# Altium footprint library 3Delight.PcbLib: 111 footprints (part 1 of 7)
Each footprint in its own frame and in the unit in brackets; x right, y up, seen from the top. Pads: shape width x height; smd on the part's side, far side on the other; paste and mask are expansions set on the pad; w line width, h text height; cw(c..) or ccw(c..) is an arc to the next point about the centre after c.
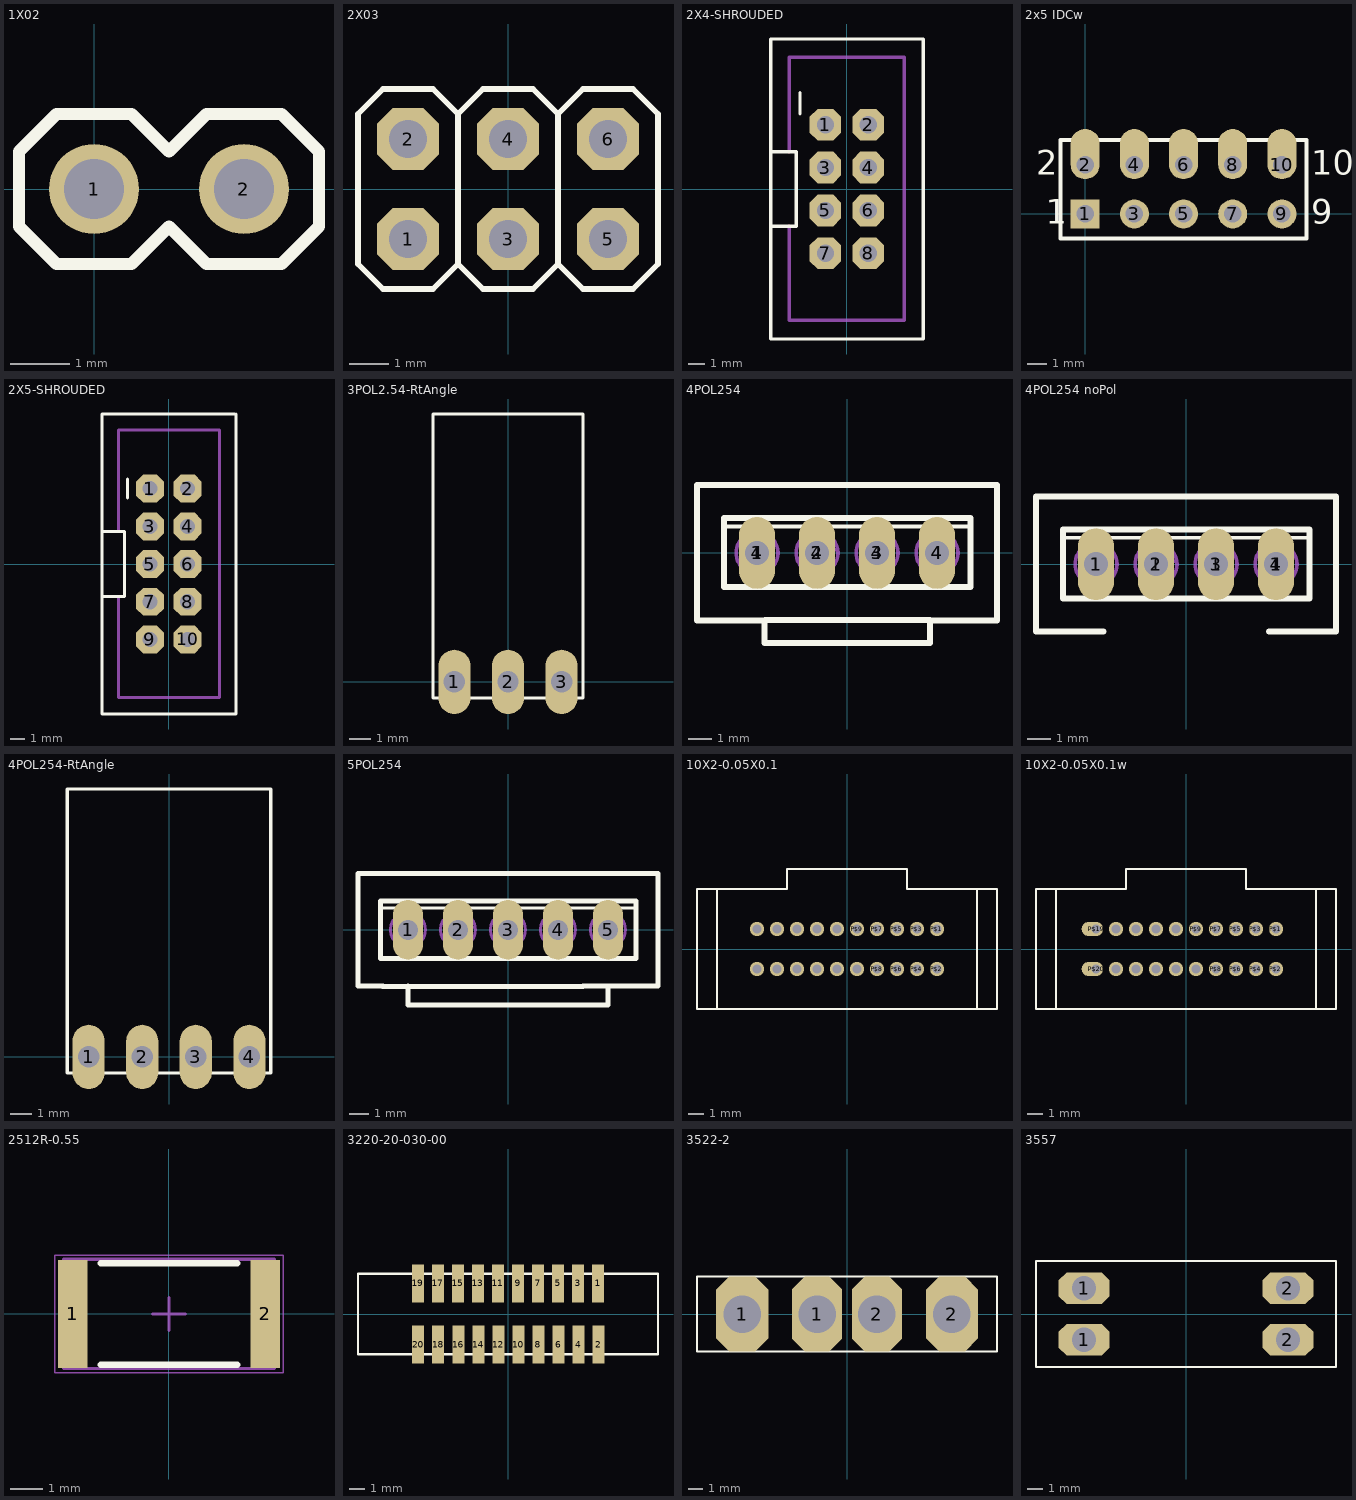
[diagram p0: the footprints below, top view; thin cyan lines are the x and y axes]

## 1X02 [mil]
pads (2):
  round 60 hole 40: 1(0,0) 2(100,0)
Top Overlay:
  lines w8: -50,-25 -50,25 -25,50 25,50 50,25 75,50 125,50 150,25 150,-25 125,-50 75,-50 50,-25 25,-50 -25,-50 -50,-25
Top Document:
  rectangle: 90,-10 110,10
  rectangle: -10,-10 10,10
3D body: height 100, standoff 0, extent -54,-54 154,54
3D body: height 336.22, standoff 0, extent -15,-15 15,15
3D body: height 336.22, standoff 0, extent 85,-15 115,15

## 2X03 [mil]
pads (6):
  oct 62x62 hole 38: 1(-100,-50) 2(-100,50) 3(0,-50) 4(0,50) 5(100,-50) 6(100,50)
Top Overlay:
  lines w6: -50,-75 -75,-100 -125,-100 -150,-75 -150,75 -125,100 -75,100 -50,75 ; -50,-75 -25,-100 25,-100 50,-75 ; -50,-75 -50,75 ; -50,75 -25,100 25,100 50,75 ; 50,-75 50,75 ; 50,-75 75,-100 125,-100 150,-75 150,75 125,100 75,100 50,75
Top Document:
  rectangle: -110,-60 -90,-40
  rectangle: -110,40 -90,60
  rectangle: -10,40 10,60
  rectangle: -10,-60 10,-40
  rectangle: 90,40 110,60
  rectangle: 90,-60 110,-40
3D body: height 100, standoff 0, extent -153,-103 153,103
3D body: height 336.22, standoff 0, extent -115,35 -85,65
3D body: height 336.22, standoff 0, extent -15,35 15,65
3D body: height 336.22, standoff 0, extent 85,35 115,65
3D body: height 336.22, standoff 0, extent -115,-65 -85,-35
3D body: height 336.22, standoff 0, extent -15,-65 15,-35
3D body: height 336.22, standoff 0, extent 85,-65 115,-35

## 2X4-SHROUDED [mil]
pads (8):
  oct 74x74 hole 40: 1(-50,150) 2(50,150) 3(-50,50) 4(50,50) 5(-50,-50) 6(50,-50) 7(-50,-150) 8(50,-150)
Top Overlay:
  lines w8: -109.25,175 -109.25,225 ; -177.17,-86.61 -177.17,-350 178,-350 178,350 -177.17,350 -177.17,87 ; -177.17,-86.61 -177.17,87 ; -177.17,-86.61 -118.11,-86.61 -118.11,87 -177.17,87
Top Document:
  rectangle: -60,140 -40,160
  rectangle: 40,140 60,160
  rectangle: 40,40 60,60
  rectangle: -60,40 -40,60
  rectangle: 40,-60 60,-40
  rectangle: -60,-60 -40,-40
  rectangle: 40,-160 60,-140
  rectangle: -60,-160 -40,-140
  rectangle: -60,-160 -40,-140
  rectangle: 40,-160 60,-140
  lines w8: -133.86,-86.61 -133.86,-306.69 134,-306.69 134,307 -133.86,307 -133.86,87
3D body: height 590.55, standoff 0, extent -181.17,-354 182,354

## 2x5 IDCw [mm]
pads (10):
  rect 1.5x1.5 hole 0.9: 1(0,0)
  oval 1.5x2.6 hole 0.9 copper offset 0,0.55: 2(0,2.54) 4(2.54,2.54) 6(5.08,2.54) 8(7.62,2.54) 10(10.16,2.54)
  round 1.5 hole 0.9: 3(2.54,0) 5(5.08,0) 7(7.62,0) 9(10.16,0)
Top Overlay:
  lines w0.2: -1.27,-1.27 11.43,-1.27 11.43,3.81 -1.27,3.81 -1.27,-1.27
  text "10" at 11.684,2.032 h1.27
  text "9" at 11.684,-0.508 h1.27
  text "1" at -2.032,-0.508 h1.27
  text "2" at -2.54,2.032 h1.27
3D body: height 12.7, standoff 1.91, extent -0.826,-0.826 10.986,3.366
3D body: height 1.91, standoff 0, extent -1.37,-1.37 11.53,3.91

## 2X5-SHROUDED [mil]
pads (10):
  oct 74x74 hole 40: 1(-50,200) 2(50,200) 3(-50,100) 4(50,100) 5(-50,0) 6(50,0) 7(-50,-100) 8(50,-100) 9(-50,-200) 10(50,-200)
Top Overlay:
  lines w8: -109.25,175 -109.25,225 ; 174,398 -177.17,398 -177.17,87 ; 178,398 178,-397.64 -177.17,-397.64 -177.17,-86.61 ; -177.17,-86.61 -177.17,87 ; -177.17,-86.61 -118.11,-86.61 -118.11,87 -177.17,87
Top Document:
  rectangle: -60,190 -40,210
  rectangle: 40,190 60,210
  rectangle: 40,90 60,110
  rectangle: -60,90 -40,110
  rectangle: 40,-10 60,10
  rectangle: -60,-10 -40,10
  rectangle: 40,-110 60,-90
  rectangle: -60,-110 -40,-90
  rectangle: 40,-210 60,-190
  rectangle: -60,-210 -40,-190
  rectangle: -60,-110 -40,-90
  rectangle: 40,-110 60,-90
  lines w8: -133.86,-86.61 -133.86,-354.33 134,-354.33 134,355 -133.86,355 -133.86,87

## 3POL2.54-RtAngle [mil]
pads (3):
  oval 60x120 hole 40: 1(-100,0) 2(0,0) 3(100,0)
Top Overlay:
  lines w6: -140,-30 140,-30 140,500 -140,500 -140,-30
Top Document:
  rectangle: 91,-9.37 110,10
  rectangle: -109.37,-9.37 -90.63,10
  rectangle: -9.37,-9.37 10,10
  text "1" at -162.5,-62.5 h62
3D body: height 275, standoff 0, extent -143,-33 143,503

## 4POL254 [mil]
pads (8):
  oval 60x120 hole 40 paste-2: 1(-150,0) 2(-50,0) 3(50,0) 4(150,0)
  oval 56x116 on Top Paste paste-2: 4(-150,0) 4(-50,0) 4(50,0) 4(150,0)
Top Overlay:
  lines w6: -200.79,44 201,44
  lines w10: -136.77,-112.22 138.73,-112.22 ; -250,-112.5 -137.5,-112.5 -137.5,-150 138,-150 138,-112.5 250,-112.5 250,113 -250,113 -250,-112.5 ; -205.12,-57.09 -205.12,58 206,58 206,-57.09 -205.12,-57.09
Top Document:
  circle w6: c150,0 r35
  circle w6: c50,0 r35
  circle w6: c-50,0 r35
  circle w6: c-150,0 r35
  lines w6: -175,-20 -130,25 ; -80,-10 -20,5 ; 30,25 70,-25 ; 120,15 180,-15
3D body: height 454.33, standoff 118.11, extent -249.98,-149.98 249.98,112.98
3D body: height 118.11, standoff 0, extent -249.98,-112.48 249.98,112.98

## 4POL254 noPol [mil]
pads (8):
  oval 60x120 hole 40: 1(-150,0) 2(-50,0) 3(50,0) 4(150,0)
  oval 56x116 on Top Paste: 1(-150,0) 1(-50,0) 1(50,0) 1(150,0)
Top Overlay:
  lines w6: -200.79,44 201,44
  lines w10: -137.5,-112.5 -250,-112.5 -250,113 250,113 250,-112.5 138,-112.5 ; -205.12,-57.09 -205.12,58 206,58 206,-57.09 -205.12,-57.09
Top Document:
  circle w6: c150,0 r35
  circle w6: c50,0 r35
  circle w6: c-50,0 r35
  circle w6: c-150,0 r35
  lines w6: -175,-20 -130,25 ; -80,-10 -20,5 ; 30,25 70,-25 ; 120,15 180,-15
3D body: height 454.33, standoff 118.11, extent -249.98,-149.98 249.98,112.98
3D body: height 118.11, standoff 0, extent -249.98,-112.48 249.98,112.98

## 4POL254-RtAngle [mil]
pads (4):
  oval 60x120 hole 40: 1(-150,0) 2(-50,0) 3(50,0) 4(150,0)
Top Overlay:
  lines w6: -190,-30 190,-30 190,500 -190,500 -190,-30
3D body: height 275, standoff 0, extent -193,-33 193,503

## 5POL254 [mil]
pads (5):
  oval 60x120 hole 40: 1(-200,0) 2(-100,0) 3(0,0) 4(100,0) 5(200,0)
Top Overlay:
  lines w6: -250.79,44 255,44
  lines w10: -251,-113 150,-113 ; -250,-112.5 -300,-112.5 -300,113 300,113 300,-112.5 150,-112.5 ; -200,-112.5 -200,-150 200,-150 200,-112.5 ; -255.12,-57.09 -255.12,58 256,58 256,-57.09 -255.12,-57.09
Top Document:
  circle w6: c100,0 r35
  circle w6: c0,0 r35
  circle w6: c-100,0 r35
  circle w6: c-200,0 r35
  circle w6: c200,0 r35
  lines w6: -225,-20 -180,25 ; -130,-10 -70,5 ; -20,25 20,-25 ; 70,15 130,-15 ; 170,15 230,-15
3D body: height 454.33, standoff 118.11, extent -299.98,-149.98 300,112.98
3D body: height 118.11, standoff 0, extent -299.98,-112.48 300,112.98

## 10X2-0.05X0.1 [mil]
pads (20):
  round 36 hole 22: P$1(225,50) P$2(225,-50) P$3(175,50) P$4(175,-50) P$5(125,50) P$6(125,-50) P$7(75,50) P$8(75,-50) P$9(25,50) P$10(25,-50) P$11(-25,50) P$12(-25,-50) P$13(-75,50) P$14(-75,-50) P$15(-125,50) P$16(-125,-50) P$17(-175,50) P$18(-175,-50) P$19(-225,50) P$20(-225,-50)
Top Overlay:
  lines w5: -325,-150 325,-150 ; -325,-150 -325,150 ; -325,-150 -375,-150 -375,150 -325,150 ; -325,150 -150,150 -150,200 150,200 150,150 325,150 ; 325,-150 325,150 ; 325,-150 375,-150 375,150 325,150
3D body: height 511.81, standoff 0, extent -324.98,-149.98 324.98,199.98
3D body: height 590.55, standoff 0, extent -374.98,-149.98 -325.02,149.98
3D body: height 590.55, standoff 0, extent 325.02,-149.98 374.98,149.98

## 10X2-0.05X0.1w [mil]
pads (20):
  round 36 hole 22: P$1(225,50) P$2(225,-50) P$3(175,50) P$4(175,-50) P$5(125,50) P$6(125,-50) P$7(75,50) P$8(75,-50) P$9(25,50) P$10(25,-50) P$11(-25,50) P$12(-25,-50) P$13(-75,50) P$14(-75,-50) P$15(-125,50) P$16(-125,-50) P$17(-175,50) P$18(-175,-50)
  oval 54x36 hole 22 copper offset -9,0: P$19(-225,50) P$20(-225,-50)
Top Overlay:
  lines w5: -325,-150 -375,-150 -375,150 -325,150 ; -325,-150 -325,150 ; -325,-150 325,-150 ; -325,150 -150,150 -150,200 150,200 150,150 325,150 ; 325,-150 375,-150 375,150 325,150 ; 325,-150 325,150
3D body: height 590.55, standoff 0, extent 325.02,-149.98 374.98,149.98
3D body: height 590.55, standoff 0, extent -374.98,-149.98 -325.02,149.98
3D body: height 511.81, standoff 0, extent -324.98,-149.98 324.98,199.98

## 2512R-0.55 [mm] "2512 Resistor 6.35mm x 3.2mm x 0.55mm"
height 0.65
pads (2):
  rect 0.9x3.3 smd: 1(-2.95,0) 2(2.95,0)
Top Overlay:
  lines w0.2: -2.1,-1.55 2.1,-1.55 ; -2.1,1.55 2.1,1.55
Mechanical 13:
  lines w0.1: -3.225,-1.675 3.225,-1.675 3.225,1.675 -3.225,1.675 -3.225,-1.675
Top Courtyard:
  lines w0.05: -3.5,-1.8 3.5,-1.8 3.5,1.8 -3.5,1.8 -3.5,-1.8
  lines w0.1: -0.5,0 0.5,0 ; 0,-0.5 0,0.5
3D body: height 0.65, standoff 0, extent 2.725,-1.675 3.225,1.675
3D body: height 0.65, standoff 0, extent -3.225,-1.675 -2.725,1.675
3D body: height 0.65, standoff 0, extent -2.725,-1.675 2.725,1.675

## 3220-20-030-00 [mm]
pads (20):
  rect 0.76x2.4 smd: 1(5.715,1.95) 2(5.74,-1.93) 3(4.445,1.95) 4(4.47,-1.93) 5(3.175,1.95) 6(3.2,-1.93) 7(1.905,1.95) 8(1.93,-1.93) 9(0.635,1.95) 10(0.66,-1.93) 11(-0.635,1.95) 12(-0.61,-1.93) 13(-1.905,1.95) 14(-1.88,-1.93) 15(-3.175,1.95) 16(-3.15,-1.93) 17(-4.445,1.95) 18(-4.42,-1.93) 19(-5.715,1.95) 20(-5.69,-1.93)
Top Overlay:
  lines w0.152: -9.5,-2.55 9.5,-2.55 9.5,2.55 -9.5,2.55 -9.5,-2.55

## 3522-2 [mil] "3522-2"
pads (4):
  oct 140x200 hole 100: 1(-280,0) 2(280,0)
  oct 133.86x200 hole 100: 1(-80,0) 2(80,0)
Top Overlay:
  lines w5: -400,-100 400,-100 400,100 -400,100 -400,-100
3D body: height 50, standoff 0, extent -402.5,-102.5 402.5,102.5
3D body: height 299.21, standoff 0, extent -354,-74 354,74
3D body: height 708.66, standoff 50, extent -353,-73 353,73

## 3557 [mil] "3557"
pads (4):
  oct 133x83 hole 63: 1(-265,-67) 1(-265,67) 2(265,-67) 2(265,67)
Top Overlay:
  lines w5: -390,-137.5 390,-137.5 390,137.5 -390,137.5 -390,-137.5
3D body: height 275.59, standoff 0, extent -392.5,-140 392.5,140
3D body: height 708.66, standoff 200, extent -353,-73 353,73
3D body: height 299.21, standoff 0, extent -354,-74 -168.31,74
3D body: height 299.21, standoff 0, extent 166.67,-74.98 352.36,73.02